# Altium integrated library ON Semi Signal Management Audio Amplifiers.IntLib: 87 symbols (part 4 of 4)
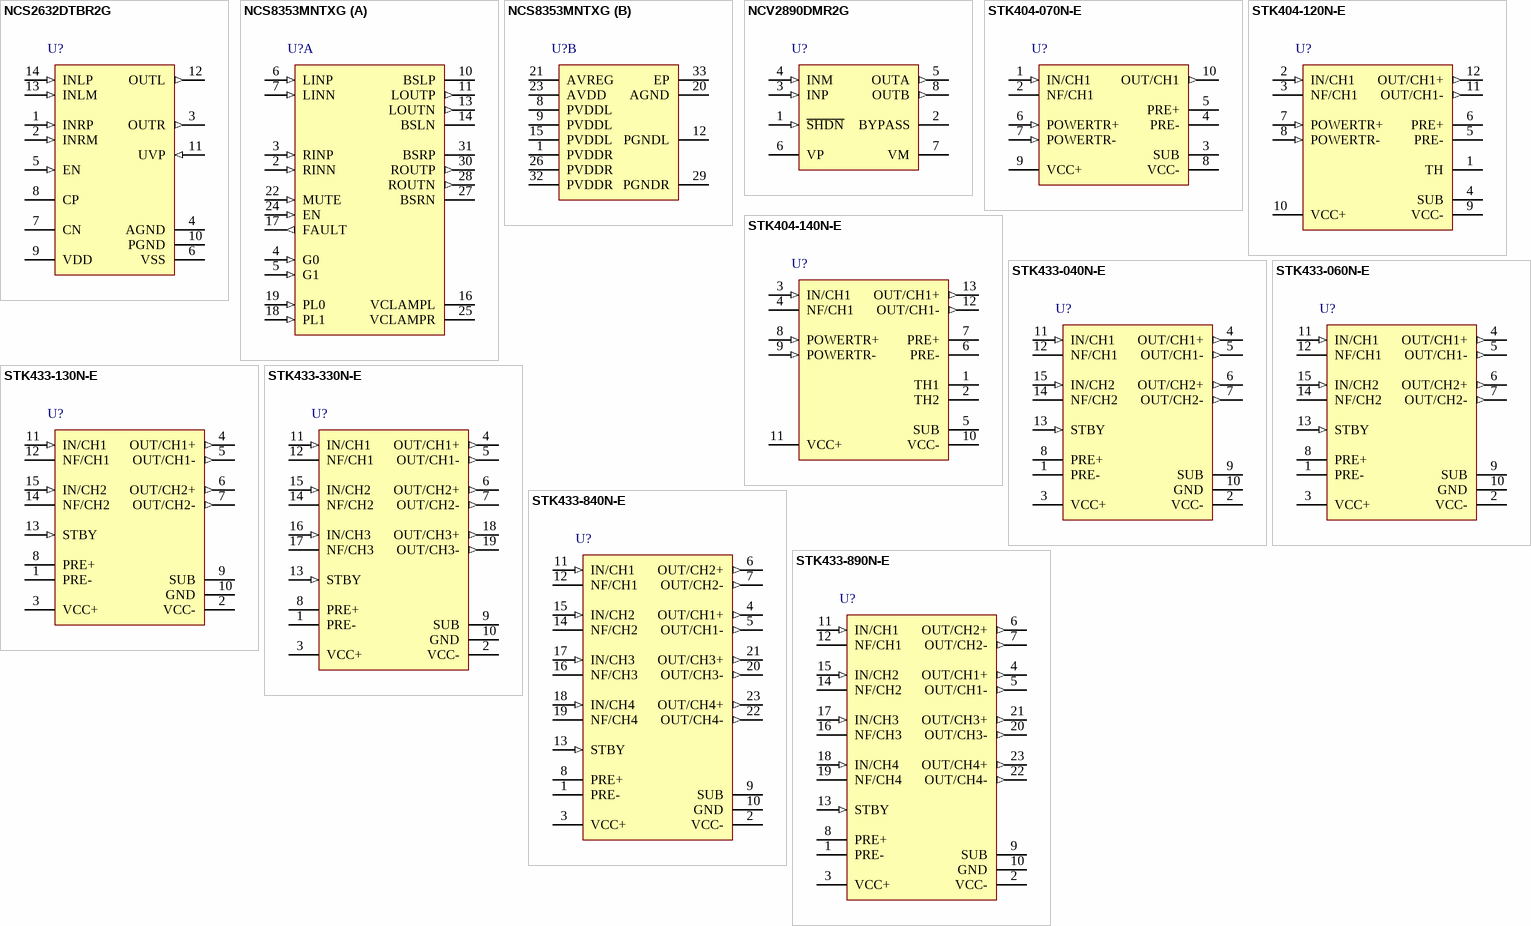
[diagram p6: symbols NCS2632DTBR2G to STK433-890N-E]

## STK404-070N-E
designator U?
1-Channel Class-AB Audio Power IC, 60 W, 10-Pin SIP, Pb-Free, Bulk Box; Manufacturer: On Semiconductor; PartNumber: STK404-070N-E; DatasheetVersion: Rev. 1; PackageVersion: Rev. O, 04/2012; PackageReference: SIP-10-127BH; PackageDescription: 10-Pin Single-In Line Package, Body 44 x 8.5 mm, Pitch 2.54 mm; Supplier 1: Digi-Key; Supplier Part Number 1: STK404-070N-E-ND; Supplier 2: Farnell; Supplier Part Number 2: 2400421; Supplier 3: Newark; Supplier Part Number 3: 39X0027; Supplier 4: Newark; Supplier Part Number 4: 45W3903; Supplier 5: Mouser; Supplier Part Number 5: 863-STK404-070N-E; Packing: Bulk Box; RoHS: TRUE; Mounting Technology: Through Hole; ComponentLink1Description: Manufacturer URL; ComponentLink1URL: http://www.onsemi.com/; ComponentLink2Description: Datasheet; ComponentLink2URL: http://www.onsemi.com/pub_link/Collateral/ENA2105-D.PDF; ComponentLink3Description: Package Specification; ComponentLink3URL: http://www.onsemi.com/pub_link/Collateral/127BH.PDF
footprint ONSC-SIP-10-127BH (SIP, 10-Leads, Body 44x8.5mm, Pitch 2.54mm)
pins: 1 IN/CH1 (in), 2 NF/CH1, 3 SUB (power), 4 PRE-, 5 PRE+, 6 POWERTR+ (in), 7 POWERTR- (in), 8 VCC- (power), 9 VCC+ (power), 10 OUT/CH1 (out)

## STK404-120N-E
designator U?
1-Channel Class-AB Audio Power IC, 120 W, 12-Pin SIP, Pb-Free, Bulk Box; Manufacturer: On Semiconductor; PartNumber: STK404-120N-E; DatasheetVersion: Rev. 1; PackageVersion: Rev. O, 04/2012; PackageReference: SIP-12-127BJ; PackageDescription: 12-Pin Single-In Line Package, Body 46.6 x 8.5 mm, Pitch 2.54 mm; Supplier 1: Digi-Key; Supplier Part Number 1: STK404-120N-E-ND; Supplier 2: Farnell; Supplier Part Number 2: 2400415; Supplier 3: Newark; Supplier Part Number 3: 39X0028; Supplier 4: Newark; Supplier Part Number 4: 07W7412; Supplier 5: Mouser; Supplier Part Number 5: 863-STK404-120N-E; Packing: Bulk Box; RoHS: TRUE; Mounting Technology: Through Hole; ComponentLink1Description: Manufacturer URL; ComponentLink1URL: http://www.onsemi.com/; ComponentLink2Description: Datasheet; ComponentLink2URL: http://www.onsemi.com/pub_link/Collateral/ENA2099-D.PDF; ComponentLink3Description: Package Specification; ComponentLink3URL: http://www.onsemi.com/pub_link/Collateral/127BJ.PDF
footprint ONSC-SIP-12-127BJ (SIP, 12-Leads, Body 46.6x8.5mm, Pitch 2.54mm)
pins: 1 TH, 2 IN/CH1 (in), 3 NF/CH1, 4 SUB (power), 5 PRE-, 6 PRE+, 7 POWERTR+ (in), 8 POWERTR- (in), 9 VCC- (power), 10 VCC+ (power), 11 OUT/CH1- (out), 12 OUT/CH1+ (out)

## STK404-140N-E
designator U?
1-Channel Class-AB Audio Power IC, 180 W, 13-Pin SIP, Pb-Free, Bulk Box; Manufacturer: On Semiconductor; PartNumber: STK404-140N-E; DatasheetVersion: Rev. 1; PackageVersion: Rev. O, 04/2012; PackageReference: SIP-13-127BK; PackageDescription: 13-Pin Single-In Line Package, Body 59.2 x 8.5 mm, Pitch 2.54 mm; Supplier 1: Digi-Key; Supplier Part Number 1: STK404-140N-E-ND; Supplier 2: Farnell; Supplier Part Number 2: 2400416; Supplier 3: Newark; Supplier Part Number 3: 07W7413; Supplier 4: Mouser; Supplier Part Number 4: 863-STK404-140N-E; Packing: Bulk Box; RoHS: TRUE; Mounting Technology: Through Hole; ComponentLink1Description: Manufacturer URL; ComponentLink1URL: http://www.onsemi.com/; ComponentLink2Description: Datasheet; ComponentLink2URL: http://www.onsemi.com/pub_link/Collateral/ENA2100-D.PDF; ComponentLink3Description: Package Specification; ComponentLink3URL: http://www.onsemi.com/pub_link/Collateral/127BK.PDF
footprint ONSC-SIP-13-127BK (SIP, 13-Leads, Body 59.2x8.5mm, Pitch 2.54mm)
pins: 1 TH1, 2 TH2, 3 IN/CH1 (in), 4 NF/CH1, 5 SUB (power), 6 PRE-, 7 PRE+, 8 POWERTR+ (in), 9 POWERTR- (in), 10 VCC- (power), 11 VCC+ (power), 12 OUT/CH1- (out), 13 OUT/CH1+ (out)

## STK433-040N-E
designator U?
2-Channel Class-AB Audio Power IC, 40 W + 40 W, 15-Pin SIP, Pb-Free, Bulk Box; Manufacturer: On Semiconductor; PartNumber: STK433-040N-E; DatasheetVersion: Rev. 1; PackageVersion: Rev. O, 04/2012; PackageReference: SIP-15-127BC; PackageDescription: 15-Pin Single-In Line Package, Body 47 x 9 mm, Pitch 2 mm; Supplier 1: Digi-Key; Supplier Part Number 1: STK433-040N-E-ND; Supplier 2: Farnell; Supplier Part Number 2: 2400417; Supplier 3: Newark; Supplier Part Number 3: 39X0030; Supplier 4: Newark; Supplier Part Number 4: 07W7414; Supplier 5: Mouser; Supplier Part Number 5: 863-STK433-040N-E; Packing: Bulk Box; RoHS: TRUE; Mounting Technology: Through Hole; ComponentLink1Description: Manufacturer URL; ComponentLink1URL: http://www.onsemi.com/; ComponentLink2Description: Datasheet; ComponentLink2URL: http://www.onsemi.com/pub_link/Collateral/ENA2101-D.PDF; ComponentLink3Description: Package Specification; ComponentLink3URL: http://www.onsemi.com/pub_link/Collateral/127BC.PDF
footprint ONSC-SIP-15-127BC (SIP, 15-Leads, Body 47x9mm, Pitch 2mm)
pins: 1 PRE-, 2 VCC- (power), 3 VCC+ (power), 4 OUT/CH1+ (out), 5 OUT/CH1- (out), 6 OUT/CH2+ (out), 7 OUT/CH2- (out), 8 PRE+, 9 SUB (power), 10 GND (power), 11 IN/CH1 (in), 12 NF/CH1, 13 STBY (in), 14 NF/CH2, 15 IN/CH2 (in)

## STK433-060N-E
designator U?
2-Channel Class-AB Audio Power IC, 50 W + 50 W, 15-Pin SIP, Pb-Free, Bulk Box; Manufacturer: On Semiconductor; PartNumber: STK433-060N-E; DatasheetVersion: Rev. 1; PackageVersion: Rev. O, 04/2012; PackageReference: SIP-15-127BC; PackageDescription: 15-Pin Single-In Line Package, Body 47 x 9 mm, Pitch 2 mm; Supplier 1: Digi-Key; Supplier Part Number 1: STK433-060N-E-ND; Supplier 2: Farnell; Supplier Part Number 2: 2400422; Supplier 3: Newark; Supplier Part Number 3: 39X0031; Supplier 4: Newark; Supplier Part Number 4: 45W3906; Supplier 5: Mouser; Supplier Part Number 5: 863-STK433-060N-E; Packing: Bulk Box; RoHS: TRUE; Mounting Technology: Through Hole; ComponentLink1Description: Manufacturer URL; ComponentLink1URL: http://www.onsemi.com/; ComponentLink2Description: Datasheet; ComponentLink2URL: http://www.onsemi.com/pub_link/Collateral/ENA2106-D.PDF; ComponentLink3Description: Package Specification; ComponentLink3URL: http://www.onsemi.com/pub_link/Collateral/127BC.PDF
footprint ONSC-SIP-15-127BC (SIP, 15-Leads, Body 47x9mm, Pitch 2mm)
pins: 1 PRE-, 2 VCC- (power), 3 VCC+ (power), 4 OUT/CH1+ (out), 5 OUT/CH1- (out), 6 OUT/CH2+ (out), 7 OUT/CH2- (out), 8 PRE+, 9 SUB (power), 10 GND (power), 11 IN/CH1 (in), 12 NF/CH1, 13 STBY (in), 14 NF/CH2, 15 IN/CH2 (in)

## STK433-130N-E
designator U?
2-Channel Class-AB Audio Power IC, 150 W + 150 W, 15-Pin SIP, Pb-Free, Bulk Box; Manufacturer: On Semiconductor; PartNumber: STK433-130N-E; DatasheetVersion: Rev. 1; PackageVersion: Rev. O, 04/2012; PackageReference: SIP-15-127BG; PackageDescription: 15-Pin Single-In Line Package, Body 67 x 9 mm, Pitch 2 mm; Supplier 1: Digi-Key; Supplier Part Number 1: STK433-130N-E-ND; Supplier 2: Newark; Supplier Part Number 2: 07W7415; Supplier 3: Mouser; Supplier Part Number 3: 863-STK433-130N-E; Packing: Bulk Box; RoHS: TRUE; Mounting Technology: Through Hole; ComponentLink1Description: Manufacturer URL; ComponentLink1URL: http://www.onsemi.com/; ComponentLink2Description: Datasheet; ComponentLink2URL: http://www.onsemi.com/pub_link/Collateral/ENA2102-D.PDF; ComponentLink3Description: Package Specification; ComponentLink3URL: http://www.onsemi.cn/pub_link/Collateral/127BG.PDF
footprint ONSC-SIP-15-127BG (SIP, 15-Leads, Body 67x9mm, Pitch 2mm)
pins: 1 PRE-, 2 VCC- (power), 3 VCC+ (power), 4 OUT/CH1+ (out), 5 OUT/CH1- (out), 6 OUT/CH2+ (out), 7 OUT/CH2- (out), 8 PRE+, 9 SUB (power), 10 GND (power), 11 IN/CH1 (in), 12 NF/CH1, 13 STBY (in), 14 NF/CH2, 15 IN/CH2 (in)

## STK433-330N-E
designator U?
3-Channel Class-AB Audio Power IC, 150 W + 150 W + 150 W, 19-Pin SIP, Pb-Free, Bulk Box; Manufacturer: On Semiconductor; PartNumber: STK433-330N-E; DatasheetVersion: Rev. 1; PackageVersion: Rev. O, 04/2012; PackageReference: SIP-19-127BD; PackageDescription: 19-Pin Single-In Line Package, Body 64 x 9 mm, Pitch 2 mm; Supplier 1: Digi-Key; Supplier Part Number 1: STK433-330N-E-ND; Supplier 2: Newark; Supplier Part Number 2: 45W3909; Supplier 3: Mouser; Supplier Part Number 3: 863-STK433-330N-E; Packing: Bulk Box; RoHS: TRUE; Mounting Technology: Through Hole; ComponentLink1Description: Manufacturer URL; ComponentLink1URL: http://www.onsemi.com/; ComponentLink2Description: Datasheet; ComponentLink2URL: http://www.onsemi.com/pub_link/Collateral/ENA2107-D.PDF; ComponentLink3Description: Package Specification; ComponentLink3URL: http://www.onsemi.com/pub_link/Collateral/127BD.PDF
footprint ONSC-SIP-19-127BD (SIP, 19-Leads, Body 64x9mm, Pitch 2mm)
pins: 1 PRE-, 2 VCC- (power), 3 VCC+ (power), 4 OUT/CH1+ (out), 5 OUT/CH1- (out), 6 OUT/CH2+ (out), 7 OUT/CH2- (out), 8 PRE+, 9 SUB (power), 10 GND (power), 11 IN/CH1 (in), 12 NF/CH1, 13 STBY (in), 14 NF/CH2, 15 IN/CH2 (in), 16 IN/CH3 (in), 17 NF/CH3, 18 OUT/CH3+ (out), 19 OUT/CH3- (out)

## STK433-840N-E
designator U?
4-Channel Class-AB Audio Power IC, 40 W x 4-Channel, 23-Pin SIP, Pb-Free, Bulk Box; Manufacturer: On Semiconductor; PartNumber: STK433-840N-E; DatasheetVersion: Rev. 1; PackageVersion: Rev. O, 04/2012; PackageReference: SIP-23-127BE; PackageDescription: 23-Pin Single-In Line Package, Body 64 x 9 mm, Pitch 2 mm; Supplier 1: Digi-Key; Supplier Part Number 1: STK433-840N-E-ND; Supplier 2: Mouser; Supplier Part Number 2: 863-STK433-840N-E; Packing: Bulk Box; RoHS: TRUE; Mounting Technology: Through Hole; ComponentLink1Description: Manufacturer URL; ComponentLink1URL: http://www.onsemi.com/; ComponentLink2Description: Datasheet; ComponentLink2URL: http://www.onsemi.com/pub_link/Collateral/ENA2108-D.PDF; ComponentLink3Description: Package Specification; ComponentLink3URL: http://www.onsemi.com/pub_link/Collateral/127BE.PDF
footprint ONSC-SIP-23-127BE (SIP, 23-Leads, Body 64x9mm, Pitch 2mm)
pins: 1 PRE-, 2 VCC- (power), 3 VCC+ (power), 4 OUT/CH1+ (out), 5 OUT/CH1- (out), 6 OUT/CH2+ (out), 7 OUT/CH2- (out), 8 PRE+, 9 SUB (power), 10 GND (power), 11 IN/CH1 (in), 12 NF/CH1, 13 STBY (in), 14 NF/CH2, 15 IN/CH2 (in), 16 NF/CH3, 17 IN/CH3 (in), 18 IN/CH4 (in), 19 NF/CH4, 20 OUT/CH3- (out), 21 OUT/CH3+ (out), 22 OUT/CH4- (out), 23 OUT/CH4+ (out)

## STK433-890N-E
designator U?
4-Channel Class-AB Audio Power IC, 80 W x 4-Channel, 23-Pin SIP, Pb-Free, Bulk Box; Manufacturer: On Semiconductor; PartNumber: STK433-890N-E; DatasheetVersion: Rev. 1; PackageVersion: Rev. O, 04/2012; PackageReference: SIP-23-127BF; PackageDescription: 23-Pin Single-In Line Package, Body 78 x 9 mm, Pitch 2 mm; Supplier 1: Digi-Key; Supplier Part Number 1: STK433-890N-E-ND; Supplier 2: Mouser; Supplier Part Number 2: 863-STK433-890N-E; Packing: Bulk Box; RoHS: TRUE; Mounting Technology: Through Hole; ComponentLink1Description: Manufacturer URL; ComponentLink1URL: http://www.onsemi.com/; ComponentLink2Description: Datasheet; ComponentLink2URL: http://www.onsemi.com/pub_link/Collateral/ENA2109-D.PDF; ComponentLink3Description: Package Specification; ComponentLink3URL: http://www.onsemi.com/pub_link/Collateral/127BF.PDF
footprint ONSC-SIP-23-127BF (SIP, 23-Leads, Body 78x9mm, Pitch 2mm)
pins: 1 PRE-, 2 VCC- (power), 3 VCC+ (power), 4 OUT/CH1+ (out), 5 OUT/CH1- (out), 6 OUT/CH2+ (out), 7 OUT/CH2- (out), 8 PRE+, 9 SUB (power), 10 GND (power), 11 IN/CH1 (in), 12 NF/CH1, 13 STBY (in), 14 NF/CH2, 15 IN/CH2 (in), 16 NF/CH3, 17 IN/CH3 (in), 18 IN/CH4 (in), 19 NF/CH4, 20 OUT/CH3- (out), 21 OUT/CH3+ (out), 22 OUT/CH4- (out), 23 OUT/CH4+ (out)